# Altium footprint library 388D_Control_v1.PcbLib: 60 footprints (part 1 of 4)
Each footprint in its own frame and in the unit in brackets; x right, y up, seen from the top. Pads: shape width x height; smd on the part's side, far side on the other; paste and mask are expansions set on the pad; w line width, h text height; cw(c..) or ccw(c..) is an arc to the next point about the centre after c.
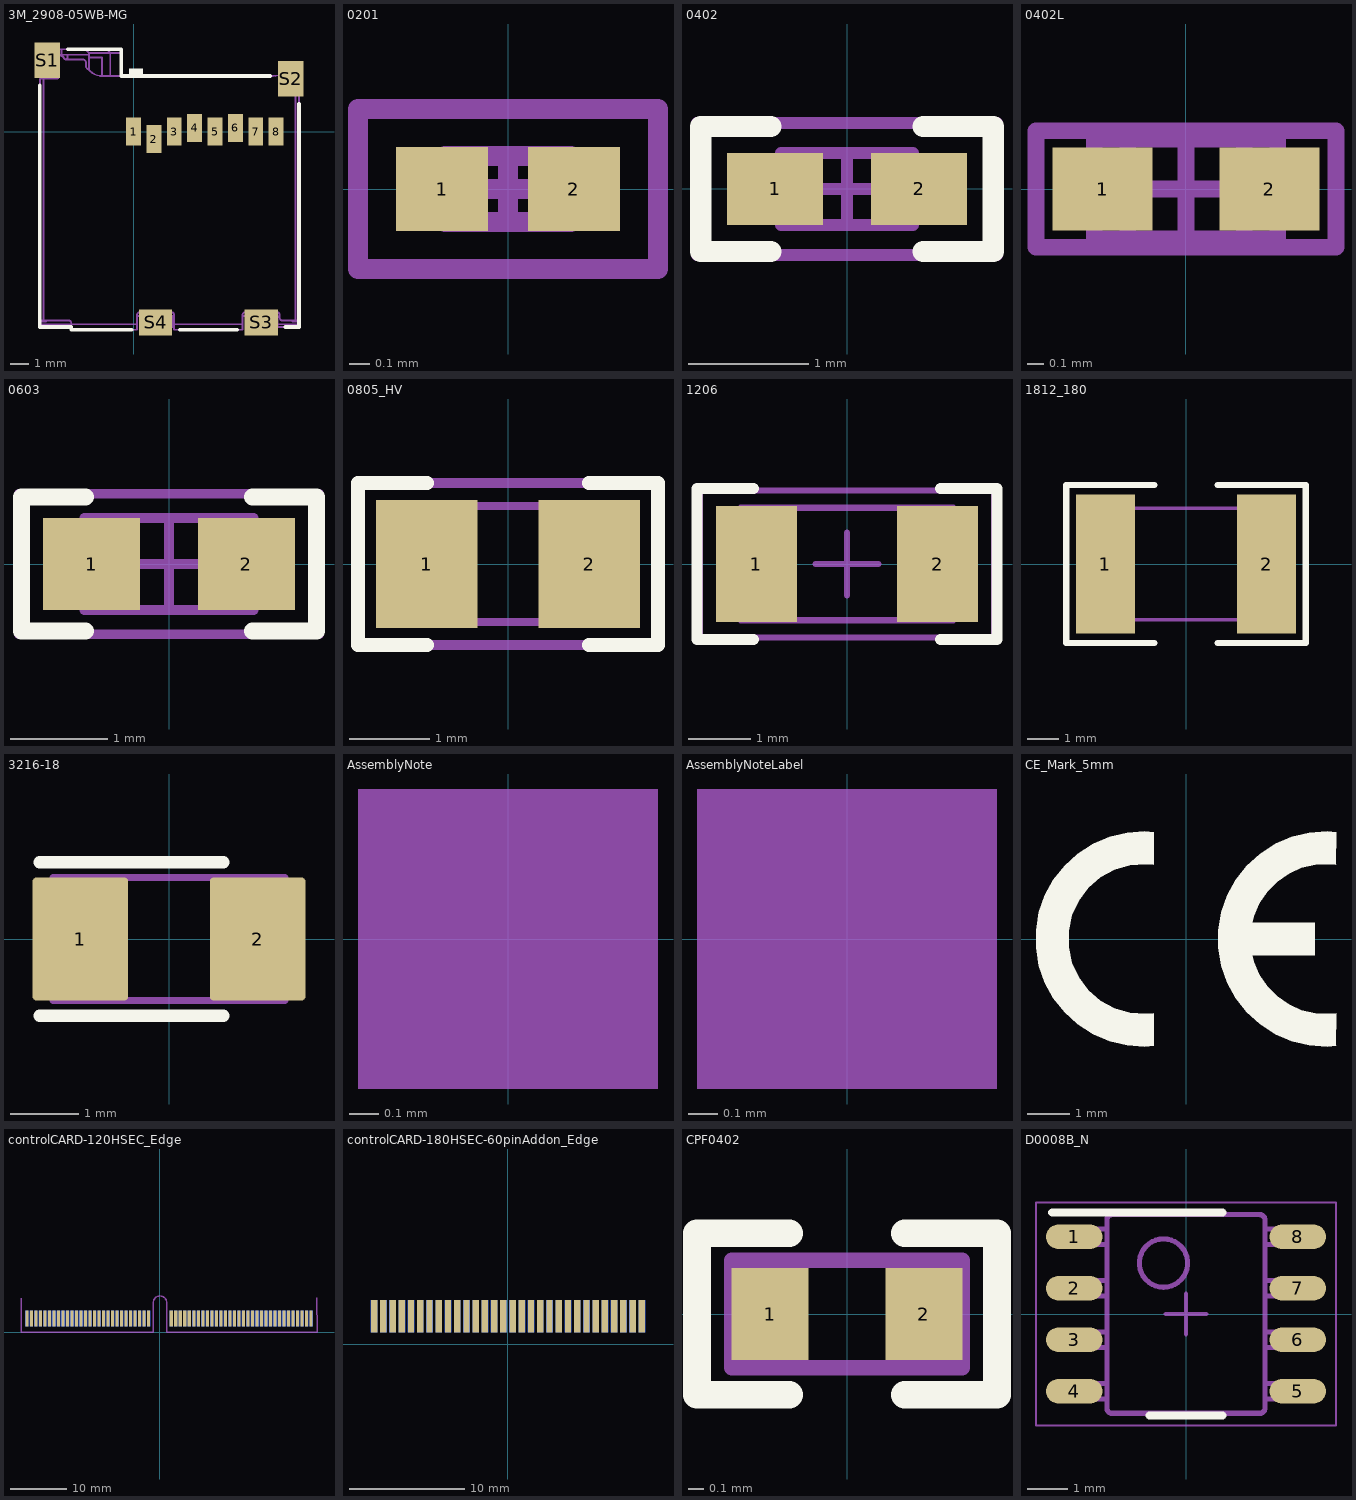
[diagram p0: the footprints below, top view; thin cyan lines are the x and y axes]

## 3M_2908-05WB-MG [mm]
pads (12):
  rect 0.8x1.5 smd: 1(0,0) 2(1.1,-0.4) 3(2.2,0) 4(3.3,0.2) 5(4.4,0) 6(5.5,0.2) 7(6.6,0) 8(7.7,0)
  rect 1.4x1.9 smd: S1(-4.66,3.85) S2(8.49,2.85)
  rect 1.8x1.4 smd: S3(6.89,-10.3) S4(1.19,-10.3)
Top Overlay:
  rectangle: -0.25,3 0.5,3.4
  lines w0.2: -5.06,2.5 -5.06,-10.55 -3.36,-10.55 -3.36,-10.7 -0.11,-10.7 ; -3.56,4.45 -0.66,4.45 -0.66,3 7.39,3 ; 2.49,-10.7 5.59,-10.7 ; 8.19,-10.55 8.94,-10.55 8.94,1.5
Mechanical 5:
  drawing of 157 lines, arcs and shapes, not listed
  text ".Designator" at -1.524,-0.508 h1.02
3D body "2908-05WB-MG.stp": height 1.91, standoff 0.01, extent -5.06,-10.75 8.94,4.5

## 0201 [mm]
pads (2):
  rect 0.46x0.42 smd mask+0.048: 1(-0.33,0) 2(0.33,0)
Mechanical 5:
  lines w0.1: -0.75,-0.4 -0.75,0.4 0.75,0.4 0.75,-0.4 -0.75,-0.4
  text ".Designator" at 0.63,0.195 h0.36
Mechanical 13:
  lines w0.1: -0.215,-0.165 -0.215,0.165 ; 0.215,-0.165 0.215,0.165 ; -0.315,-0.165 -0.315,0.165 0.315,0.165 0.315,-0.165 -0.315,-0.165
Mechanical 15:
  lines w0.1: -0.165,0 0.165,0 ; 0,-0.165 0,0.165 ; -0.75,-0.4 -0.75,0.4 0.75,0.4 0.75,-0.4 -0.75,-0.4
3D body: height 0.26, standoff 0, extent -0.314,-0.164 -0.216,0.164
3D body: height 0.26, standoff 0, extent -0.214,-0.164 0.214,0.164
3D body: height 0.26, standoff 0, extent 0.216,-0.164 0.314,0.164

## 0402 [mm]
pads (2):
  rect 0.8x0.6 smd: 1(-0.6,0) 2(0.6,0)
Top Overlay:
  lines w0.178: -0.635,-0.521 -1.219,-0.521 -1.219,0.521 -0.635,0.521 ; 0.635,-0.521 1.219,-0.521 1.219,0.521 0.635,0.521
Mechanical 5:
  lines w0.1: -1.25,-0.55 1.25,-0.55 1.25,0.55 -1.25,0.55 -1.25,-0.55
  text ".Designator" at -1.117,-0.305 h0.61
Mechanical 13:
  lines w0.1: -0.35,-0.3 -0.35,0.3 ; 0.35,-0.3 0.35,0.3 ; -0.55,-0.3 -0.55,0.3 0.55,0.3 0.55,-0.3 -0.55,-0.3
Mechanical 15:
  lines w0.1: -0.3,0 0.3,0 ; 0,-0.3 0,0.3 ; -1.25,-0.55 -1.25,0.55 1.25,0.55 1.25,-0.55 -1.25,-0.55
3D body: height 0.6, standoff 0, extent -0.549,-0.299 -0.351,0.299
3D body: height 0.6, standoff 0, extent -0.349,-0.299 0.349,0.299
3D body: height 0.6, standoff 0, extent 0.351,-0.299 0.549,0.299

## 0402L [mm]
pads (2):
  rect 0.6x0.5 smd: 1(-0.5,0) 2(0.5,0)
Mechanical 5:
  lines w0.1: -0.9,-0.35 0.9,-0.35 0.9,0.35 -0.9,0.35 -0.9,-0.35
  text ".Designator" at -0.775,-0.225 h0.43
Mechanical 13:
  lines w0.1: -0.35,-0.3 -0.35,0.3 ; 0.35,-0.3 0.35,0.3 ; -0.55,-0.3 -0.55,0.3 0.55,0.3 0.55,-0.3 -0.55,-0.3
Mechanical 15:
  lines w0.1: -0.3,0 0.3,0 ; 0,-0.3 0,0.3 ; -0.9,-0.35 0.9,-0.35 0.9,0.35 -0.9,0.35 -0.9,-0.35
3D body: height 0.6, standoff 0, extent 0.351,-0.299 0.549,0.299
3D body: height 0.6, standoff 0, extent -0.349,-0.299 0.349,0.299
3D body: height 0.6, standoff 0, extent -0.549,-0.299 -0.351,0.299

## 0603 [mm]
pads (2):
  rect 1x0.95 smd: 1(-0.8,0) 2(0.8,0)
Top Overlay:
  lines w0.178: -0.864,-0.691 -1.524,-0.691 -1.524,0.693 -0.864,0.693 ; 0.864,-0.691 1.524,-0.691 1.524,0.693 0.864,0.693
Mechanical 5:
  lines w0.1: -1.55,-0.725 -1.55,0.725 1.55,0.725 1.55,-0.725 -1.55,-0.725
  text ".Designator" at -1.397,-0.381 h0.76
Mechanical 13:
  lines w0.1: -0.55,-0.475 -0.55,0.475 ; 0.55,-0.475 0.55,0.475 ; -0.875,-0.475 0.875,-0.475 0.875,0.475 -0.875,0.475 -0.875,-0.475
Mechanical 15:
  lines w0.1: -0.475,0 0.475,0 ; 0,-0.475 0,0.475 ; -1.55,-0.725 1.55,-0.725 1.55,0.725 -1.55,0.725 -1.55,-0.725
3D body: height 1, standoff 0, extent -0.874,-0.474 -0.551,0.474
3D body: height 1, standoff 0, extent -0.549,-0.474 0.549,0.474
3D body: height 1, standoff 0, extent 0.551,-0.474 0.874,0.474

## 0805_HV [mil]
pads (2):
  rect 50x63 smd: 1(-40,0) 2(40,0)
Top Overlay:
  lines w7: -40,-40 -74,-40 -74,0 -74,40 -40,40 ; 40,-40 74,-40 74,0 74,40 40,40
Mechanical 5:
  lines w5: -74,-40 -74,40 74,40 74,-40 -74,-40
  text ".Designator" at 58.31,22.2 h35
Mechanical 13:
  lines w3.94: -25.59,-28.54 -25.59,28.54 ; 25.59,-28.54 25.59,28.54 ; -43.31,-28.54 -43.31,28.54 43.31,28.54 43.31,-28.54 -43.31,-28.54
3D body: height 57.09, standoff 0, extent -25.57,-28.52 25.57,28.52
3D body: height 57.09, standoff 0, extent 25.61,-28.52 43.29,28.52
3D body: height 57.09, standoff 0, extent -43.29,-28.52 -25.61,28.52

## 1206 [mm]
pads (2):
  rect 1.3x1.85 smd: 1(-1.45,0) 2(1.45,0)
Top Overlay:
  lines w0.178: -1.5,-1.21 -2.4,-1.21 -2.4,1.21 -1.5,1.21 ; 1.5,-1.21 2.4,-1.21 2.4,1.21 1.5,1.21
Mechanical 5:
  lines w0.1: -1.7,-0.9 1.7,-0.9 1.7,0.9 -1.7,0.9 -1.7,-0.9
  text ".Designator" at -1.475,-0.4 h0.81
Mechanical 13:
  lines w0.1: -1.2,-0.9 -1.2,0.9 ; 1.2,-0.9 1.2,0.9 ; -1.7,-0.9 1.7,-0.9 1.7,0.9 -1.7,0.9 -1.7,-0.9
Mechanical 15:
  lines w0.1: -0.5,0 0.5,0 ; 0,-0.5 0,0.5 ; -2.35,-1.175 2.35,-1.175 2.35,1.175 -2.35,1.175 -2.35,-1.175
3D body: height 1.35, standoff 0, extent 1.201,-0.899 1.699,0.899
3D body: height 1.35, standoff 0, extent -1.199,-0.899 1.199,0.899
3D body: height 1.35, standoff 0, extent -1.699,-0.899 -1.201,0.899

## 1812_180 [mm]
pads (2):
  rect 1.85x4.36 smd: 1(-2.53,0) 2(2.53,0)
Top Overlay:
  lines w0.2: -1,-2.48 -3.755,-2.48 -3.755,2.48 -1,2.48 ; 1,-2.48 3.755,-2.48 3.755,2.48 1,2.48
Mechanical 5:
  lines w0.1: -2.425,-1.75 -2.425,1.75 2.425,1.75 2.425,-1.75 -2.425,-1.75
  text ".Designator" at -2.312,-3.183 h1.02
3D body: height 1.8, standoff 0, extent -2.425,-1.75 -2,1.75
3D body: height 1.8, standoff 0, extent 2,-1.75 2.425,1.75
3D body: height 1.8, standoff 0, extent -2,-1.75 2,1.75

## 3216-18 [mm]
pads (2):
  rrect7% 1.4x1.8 smd: 1(-1.3,0) 2(1.3,0)
Top Overlay:
  lines w0.178: -1.9,-1.125 0.8,-1.125 ; -1.9,1.125 0.8,1.125
Mechanical 5:
  rectangle: -1.7,-0.9 -1.175,0.9
  lines w0.1: -1.175,-0.9 -1.175,0.9 ; -1.7,-0.9 1.7,-0.9 1.7,0.9 -1.7,0.9 -1.7,-0.9
  text ".Designator" at -0.95,-0.325 h0.64
3D body "3216-18.stp": height 1.82, standoff 0.01, extent -1.7,-0.9 1.7,0.9

## AssemblyNote [mm]
Mechanical 5:
  rectangle: -0.508,-0.508 0.508,0.508
  text ".Comment" at 1.143,-0.508 h1.02
  text ".Designator" at -4.191,-0.508 h1.02

## AssemblyNoteLabel [mm]
Mechanical 5:
  rectangle: -0.508,-0.508 0.508,0.508
  text "Install label in silkscreened box after final wash.  Text shall be 8 pt font.  Text shall be per the Label Table in the PDF schematic." at 1.143,-0.508 h1.02
  text ".Designator" at -4.191,-0.508 h1.02

## CE_Mark_5mm [mm]
Top Overlay:
  region: -0.75,-2.487 -0.958,-2.508 -1.376,-2.48 -1.783,-2.383 -2.169,-2.22 -2.522,-1.994 -2.832,-1.714 -3.092,-1.385 -3.293,-1.018 -3.43,-0.622 -3.5,-0.209 -3.5,0.209 -3.43,0.622 -3.293,1.018 -3.092,1.385 -2.832,1.714 -2.522,1.994 -2.169,2.22 -1.783,2.383 -1.376,2.48 -0.958,2.508 -0.75,2.487 -0.75,1.732 -0.937,1.749 -1.31,1.722 -1.669,1.617 -1.998,1.438 -2.281,1.193 -2.505,0.893 -2.66,0.553 -2.74,0.187 -2.74,-0.187 -2.66,-0.553 -2.505,-0.893 -2.281,-1.193 -1.998,-1.438 -1.669,-1.617 -1.31,-1.722 -0.937,-1.749 -0.75,-1.732
  region: 3.5,-1.732 3.337,-1.748 3.01,-1.733 2.691,-1.658 2.392,-1.525 2.123,-1.339 1.894,-1.106 1.712,-0.834 1.583,-0.533 1.541,-0.375 3,-0.375 3,0.375 1.541,0.375 1.583,0.533 1.712,0.834 1.894,1.106 2.123,1.339 2.392,1.525 2.691,1.658 3.01,1.733 3.337,1.748 3.5,1.732 3.5,2.487 3.292,2.508 2.874,2.48 2.467,2.383 2.081,2.22 1.728,1.994 1.418,1.714 1.158,1.385 0.957,1.018 0.82,0.622 0.75,0.209 0.75,-0.209 0.82,-0.622 0.957,-1.018 1.158,-1.385 1.418,-1.714 1.728,-1.994 2.081,-2.22 2.467,-2.383 2.874,-2.48 3.292,-2.508 3.5,-2.487

## controlCARD-120HSEC_Edge [mm]
pads (120):
  rect 0.55x2.8 smd paste-2.5 mask+0: 1(-23.6,2.4) 3(-22.8,2.4) 5(-22,2.4) 7(-21.2,2.4) 9(-20.4,2.4) 11(-19.6,2.4) 13(-18.8,2.4) 15(-18,2.4) 17(-17.2,2.4) 19(-16.4,2.4) 21(-15.6,2.4) 23(-14.8,2.4) 25(-14,2.4) 27(-13.2,2.4) 29(-12.4,2.4) 31(-11.6,2.4) 33(-10.8,2.4) 35(-10,2.4) 37(-9.2,2.4) 39(-8.4,2.4) 41(-7.6,2.4) 43(-6.8,2.4) 45(-6,2.4) 47(-5.2,2.4) 49(-4.4,2.4) 51(-3.6,2.4) 53(-2.8,2.4) 55(-2,2.4) 57(2,2.4) 59(2.8,2.4) 61(3.6,2.4) 63(4.4,2.4) 65(5.2,2.4) 67(6,2.4) 69(6.8,2.4) 71(7.6,2.4) 73(8.4,2.4) 75(9.2,2.4) 77(10,2.4) 79(10.8,2.4) 81(11.6,2.4) 83(12.4,2.4) 85(13.2,2.4) 87(14,2.4) 89(14.8,2.4) 91(15.6,2.4) 93(16.4,2.4) 95(17.2,2.4) 97(18,2.4) 99(18.8,2.4) 101(19.6,2.4) 103(20.4,2.4) 105(21.2,2.4) 107(22,2.4) 109(22.8,2.4) 111(23.6,2.4) 113(24.4,2.4) 115(25.2,2.4) 117(26,2.4) 119(26.8,2.4)
  rect 0.55x2.8 smd far side paste-2.5 mask+0: 2(-23.6,2.4) 4(-22.8,2.4) 6(-22,2.4) 8(-21.2,2.4) 10(-20.4,2.4) 12(-19.6,2.4) 14(-18.8,2.4) 16(-18,2.4) 18(-17.2,2.4) 20(-16.4,2.4) 22(-15.6,2.4) 24(-14.8,2.4) 26(-14,2.4) 28(-13.2,2.4) 30(-12.4,2.4) 32(-11.6,2.4) 34(-10.8,2.4) 36(-10,2.4) 38(-9.2,2.4) 40(-8.4,2.4) 42(-7.6,2.4) 44(-6.8,2.4) 46(-6,2.4) 48(-5.2,2.4) 50(-4.4,2.4) 52(-3.6,2.4) 54(-2.8,2.4) 56(-2,2.4) 58(2,2.4) 60(2.8,2.4) 62(3.6,2.4) 64(4.4,2.4) 66(5.2,2.4) 68(6,2.4) 70(6.8,2.4) 72(7.6,2.4) 74(8.4,2.4) 76(9.2,2.4) 78(10,2.4) 80(10.8,2.4) 82(11.6,2.4) 84(12.4,2.4) 86(13.2,2.4) 88(14,2.4) 90(14.8,2.4) 92(15.6,2.4) 94(16.4,2.4) 96(17.2,2.4) 98(18,2.4) 100(18.8,2.4) 102(19.6,2.4) 104(20.4,2.4) 106(21.2,2.4) 108(22,2.4) 110(22.8,2.4) 112(23.6,2.4) 114(24.4,2.4) 116(25.2,2.4) 118(26,2.4) 120(26.8,2.4)
Top Solder:
  rectangle: -24.6,0 -1.2,5.2
  rectangle: 1.2,0 27.64,5.2
Bottom Solder:
  rectangle: -24.63,0 -1.2,5.2
  rectangle: 1.2,0 27.64,5.2
Mechanical 1:
  lines w0.254: -24.63,6 -24.63,0 -1.2,0 -1.2,5.2 cw(c0,5.2) 1.2,5.2 1.2,0 27.855,0 27.841,6.083

## controlCARD-180HSEC-60pinAddon_Edge [mm]
pads (60):
  rect 0.55x2.8 smd paste-2.5 mask+0: 121(-11.6,2.4) 123(-10.8,2.4) 125(-10,2.4) 127(-9.2,2.4) 129(-8.4,2.4) 131(-7.6,2.4) 133(-6.8,2.4) 135(-6,2.4) 137(-5.2,2.4) 139(-4.4,2.4) 141(-3.6,2.4) 143(-2.8,2.4) 145(-2,2.4) 147(-1.2,2.4) 149(-0.4,2.4) 151(0.4,2.4) 153(1.2,2.4) 155(2,2.4) 157(2.8,2.4) 159(3.6,2.4) 161(4.4,2.4) 163(5.2,2.4) 165(6,2.4) 167(6.8,2.4) 169(7.6,2.4) 171(8.4,2.4) 173(9.2,2.4) 175(10,2.4) 177(10.8,2.4) 179(11.6,2.4)
  rect 0.55x2.8 smd far side paste-2.5 mask+0: 122(-11.6,2.4) 124(-10.8,2.4) 126(-10,2.4) 128(-9.2,2.4) 130(-8.4,2.4) 132(-7.6,2.4) 134(-6.8,2.4) 136(-6,2.4) 138(-5.2,2.4) 140(-4.4,2.4) 142(-3.6,2.4) 144(-2.8,2.4) 146(-2,2.4) 148(-1.2,2.4) 150(-0.4,2.4) 152(0.4,2.4) 154(1.2,2.4) 156(2,2.4) 158(2.8,2.4) 160(3.6,2.4) 162(4.4,2.4) 164(5.2,2.4) 166(6,2.4) 168(6.8,2.4) 170(7.6,2.4) 172(8.4,2.4) 174(9.2,2.4) 176(10,2.4) 178(10.8,2.4) 180(11.6,2.4)
Top Solder:
  rectangle: -12.44,0 12.44,5.2
Bottom Solder:
  rectangle: -12.44,0 12.44,5.2

## CPF0402 [mm]
pads (2):
  rect 0.5x0.6 smd: 1(-0.5,0) 2(0.5,0)
Top Overlay:
  lines w0.18: -0.375,-0.525 -0.975,-0.525 -0.975,0.525 -0.375,0.525 ; 0.375,-0.525 0.975,-0.525 0.975,0.525 0.375,0.525
Mechanical 5:
  lines w0.1: -0.75,-0.35 -0.75,0.35 0.75,0.35 0.75,-0.35 -0.75,-0.35
  text ".Designator" at -0.65,-0.2 h0.4
3D body: height 0.35, standoff 0, extent -0.549,-0.274 -0.301,0.274
3D body: height 0.35, standoff 0, extent 0.301,-0.274 0.549,0.274
3D body: height 0.35, standoff 0, extent -0.299,-0.274 0.299,0.274

## D0008B_N [mil]
pads (8):
  oval 55x23.62 smd: 1(-108.5,75) 2(-108.5,25) 3(-108.5,-25) 4(-108.5,-75) 5(108.5,-75) 6(108.5,-25) 7(108.5,25) 8(108.5,75)
Top Overlay:
  lines w7.87: -129.92,98.43 35.43,98.43 ; -35.43,-98.43 35.43,-98.43
Mechanical 5:
  lines w5: -93.51,-82.48 -78.55,-82.48 -76.85,-82.48 -76.85,-67.52 -78.55,-67.52 -93.51,-67.52 ; -93.51,-82.48 -101.94,-82.48 -118.19,-82.48 -118.19,-67.52 -101.94,-67.52 -93.51,-67.52 ; -93.51,-82.48 -93.51,-67.52 ; -93.51,-32.48 -93.51,-17.52 ; -93.51,-32.48 -78.55,-32.48 -76.85,-32.48 -76.85,-17.52 -78.55,-17.52 -93.51,-17.52 ; -93.51,-32.48 -101.94,-32.48 -118.19,-32.48 -118.19,-17.52 -101.94,-17.52 -93.51,-17.52 ; -93.51,17.52 -78.55,17.52 -76.85,17.52 -76.85,32.48 -78.55,32.48 -93.51,32.48 ; -93.51,17.52 -101.94,17.52 -118.19,17.52 -118.19,32.48 -101.94,32.48 -93.51,32.48 ; -93.51,17.52 -93.51,32.48 ; -93.51,67.52 -93.51,82.48 ; -93.51,67.52 -78.55,67.52 -76.85,67.52 -76.85,82.48 -78.55,82.48 -93.51,82.48 ; -93.51,67.52 -101.94,67.52 -118.19,67.52 -118.19,82.48 -101.94,82.48 -93.51,82.48 ; -13.07,-96.46 -7.17,-96.46 ; -13.07,-96.46 -7.17,-96.46 ; -13.07,-96.46 -71.85,-96.46 -71.89,-96.46 cw(c-71.85,-91.46) -76.85,-91.49 -76.85,-91.46 -76.85,91.46 -76.85,91.49 cw(c-71.85,91.46) -71.89,96.46 -71.85,96.46 -13.07,96.46 ; -13.07,96.46 -7.17,96.46 ; -13.07,96.46 -7.17,96.46 ; -7.17,-96.46 7.01,-96.46 ; -7.17,96.46 7.01,96.46 ; 7.01,-96.46 12.91,-96.46 ; 7.01,-96.46 12.91,-96.46 ; 7.01,96.46 12.91,96.46 ; 7.01,96.46 12.91,96.46 ; 12.91,-96.46 71.69,-96.46 71.73,-96.46 ccw(c71.69,-91.46) 76.69,-91.49 76.69,-91.46 76.69,91.46 76.69,91.49 ccw(c71.69,91.46) 71.73,96.46 71.69,96.46 12.91,96.46 ; 93.36,-82.48 101.78,-82.48 118.03,-82.48 118.03,-67.52 101.78,-67.52 93.36,-67.52 ; 93.36,-82.48 78.4,-82.48 76.69,-82.48 76.69,-67.52 78.4,-67.52 93.36,-67.52 ; 93.36,-82.48 93.36,-67.52 ; 93.36,-32.48 101.78,-32.48 118.03,-32.48 118.03,-17.52 101.78,-17.52 93.36,-17.52 ; 93.36,-32.48 93.36,-17.52 ; 93.36,-32.48 78.4,-32.48 76.69,-32.48 76.69,-17.52 78.4,-17.52 93.36,-17.52 ; 93.36,17.52 101.78,17.52 118.03,17.52 118.03,32.48 101.78,32.48 93.36,32.48 ; 93.36,17.52 93.36,32.48 ; 93.36,17.52 78.4,17.52 76.69,17.52 76.69,32.48 78.4,32.48 93.36,32.48 ; 93.36,67.52 101.78,67.52 118.03,67.52 118.03,82.48 101.78,82.48 93.36,82.48 ; 93.36,67.52 93.36,82.48 ; 93.36,67.52 78.4,67.52 76.69,67.52 76.69,82.48 78.4,82.48 93.36,82.48 ; -21.85,25.96 ccw(c-21.85,49.46) -21.85,72.96 ccw(c-21.85,49.46) -21.85,25.96
  text ".Designator" at -63.98,-24.61 h35
Mechanical 15:
  lines w1.97: -145.67,-108.27 145.67,-108.27 145.67,108.27 -145.67,108.27 -145.67,-108.27
  lines w3.94: -19.69,0 19.68,0 ; 0,-19.68 0,19.68
3D body "D0008A.stp": height 63.98, standoff 0, extent -118.1,-96.46 118.12,96.46